# Altium schematic symbol library MOSFET_N_GSD.Schlib: 1 symbol
Pins are listed as number, name and electrical type; pins without a type are passive.

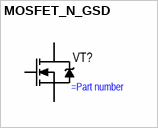
[diagram p0: symbol MOSFET_N_GSD]

## MOSFET_N_GSD
designator VT?
pins: 1 D, 2 S, 3 G